# Altium footprint library Infineon Transistor & Diode.PcbLib: 47 footprints (part 2 of 3)
Each footprint in its own frame and in the unit in brackets; x right, y up, seen from the top. Pads: shape width x height; smd on the part's side, far side on the other; paste and mask are expansions set on the pad; w line width, h text height; cw(c..) or ccw(c..) is an arc to the next point about the centre after c.
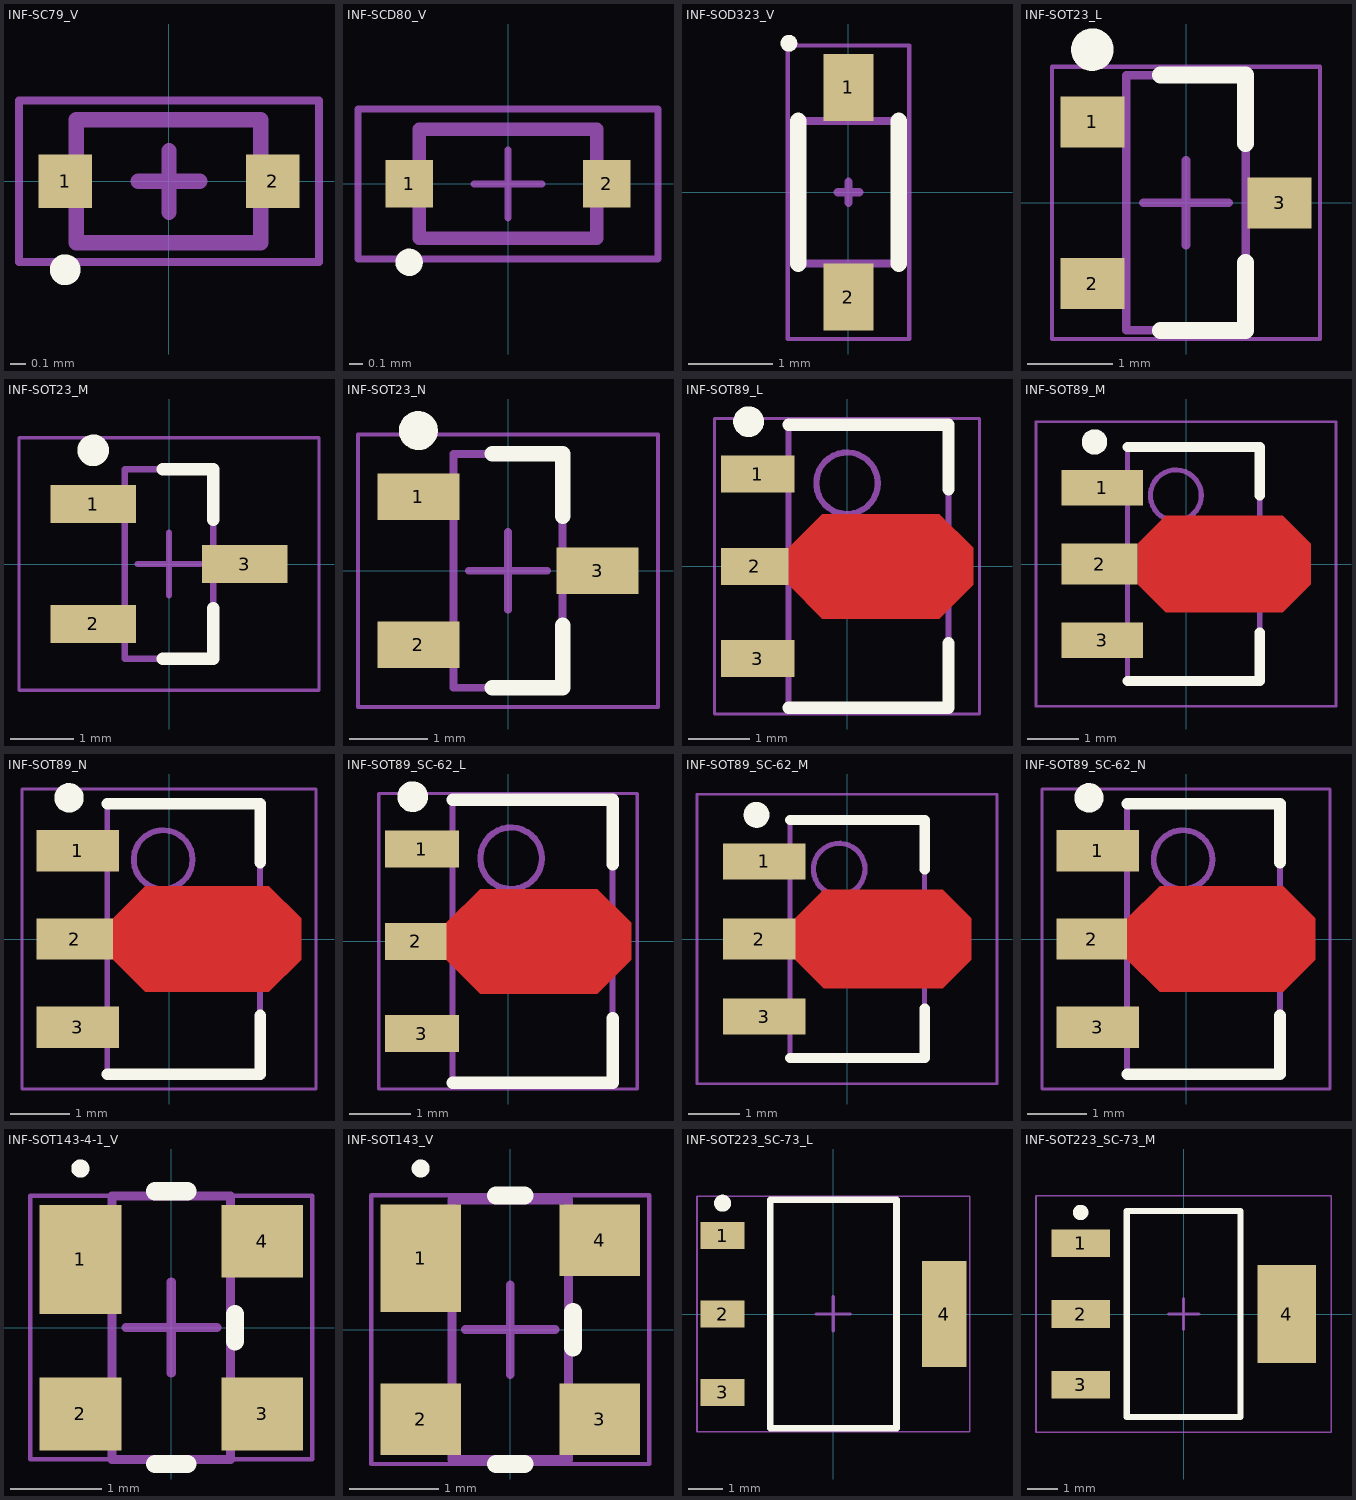
[diagram p1: the footprints below, top view; thin cyan lines are the x and y axes]

## INF-SC79_V [mm] "SC79, 2-Leads, Body 1.2x0.8 mm"
height 0.59
pads (2):
  rect 0.35x0.35 smd: 1(-0.672,0) 2(0.678,0)
Top Overlay:
  circle w0.1: c-0.672,-0.575 r0.05
Mechanical 13:
  lines w0.1: -0.6,-0.4 0.6,-0.4 0.6,0.4 -0.6,0.4 -0.6,-0.4
Mechanical 15:
  lines w0.05: -0.972,-0.254 -0.972,0.337 -0.972,0.525 -0.762,0.525 0.381,0.525 0.978,0.525 0.978,0.337 0.978,-0.254 ; -0.972,0.254 -0.972,-0.337 -0.972,-0.525 -0.762,-0.525 0.381,-0.525 0.978,-0.525 0.978,-0.337 0.978,0.254
  lines w0.1: -0.197,0 0.203,0 ; 0.003,-0.2 0.003,0.2
3D body: height 0.59, standoff 0, extent -0.597,-0.4 0.603,0.4

## INF-SCD80_V [mm] "SCD80, 2-Leads, Body 0.8x1.3 mm"
height 0.8
pads (2):
  rect 0.35x0.35 smd: 1(-0.725,0) 2(0.725,0)
Top Overlay:
  circle w0.1: c-0.725,-0.575 r0.05
Mechanical 13:
  lines w0.1: -0.65,-0.4 -0.65,0.4 0.65,0.4 0.65,-0.4 -0.65,-0.4
Mechanical 15:
  lines w0.05: -0.25,0 0.25,0 ; 0,-0.25 0,0.25 ; -1.1,-0.55 -1.1,0.55 1.1,0.55 1.1,-0.55 -1.1,-0.55
3D body: height 0.8, standoff 0, extent -0.65,-0.4 0.65,0.4

## INF-SOD323_V [mm] "SOD, 2-Leads, Body 1.7x1.25 mm"
height 1.1
pads (2):
  rect 0.6x0.8 smd: 1(0,1.25) 2(0,-1.25)
Top Overlay:
  circle w0.1: c-0.71,1.778 r0.05
  lines w0.2: -0.6,-0.85 -0.6,0.85 ; 0.6,-0.85 0.6,0.85
Mechanical 13:
  lines w0.1: -0.625,-0.85 0.625,-0.85 0.625,0.85 -0.625,0.85 -0.625,-0.85
Mechanical 15:
  lines w0.05: -0.725,-1.75 0.725,-1.75 0.725,1.75 -0.725,1.75 -0.725,-1.75
  lines w0.1: -0.127,0 0.127,0 ; 0,-0.127 0,0.127
3D body: height 1.1, standoff 0, extent -0.625,-0.85 0.625,0.85

## INF-SOT23_L [mm] "SOT23, 3-Leads, Body 2.9x1.3 mm, Pitch 0.95 mm, IPC High Density"
height 1.1
pads (3):
  rect 0.75x0.6 smd: 1(-1.1,0.95) 2(-1.1,-0.95) 3(1.1,0)
Top Overlay:
  circle w0.25: c-1.1,1.8 r0.125
  lines w0.2: -0.3,-1.5 0.7,-1.5 0.7,-0.7 ; -0.3,1.5 0.7,1.5 0.7,0.7
Mechanical 13:
  lines w0.1: -0.7,-1.5 -0.7,1.5 0.7,1.5 0.7,-1.5 -0.7,-1.5
Mechanical 15:
  lines w0.05: -1.575,-1.6 -1.575,1.6 1.575,1.6 1.575,-1.6 -1.575,-1.6
  lines w0.1: -0.5,0 0.5,0 ; 0,-0.5 0,0.5
3D body: height 1.1, standoff 0.1, extent -0.7,-1.5 0.7,1.5

## INF-SOT23_M [mm] "SOT23, 3-Leads, Body 2.9x1.3 mm, Pitch 0.95 mm, IPC Low Density"
height 1.1
pads (3):
  rect 1.35x0.6 smd: 1(-1.2,0.95) 2(-1.2,-0.95) 3(1.2,0)
Top Overlay:
  circle w0.25: c-1.2,1.8 r0.125
  lines w0.2: -0.1,-1.5 0.7,-1.5 0.7,-0.7 ; -0.1,1.5 0.7,1.5 0.7,0.7
Mechanical 13:
  lines w0.1: -0.7,-1.5 -0.7,1.5 0.7,1.5 0.7,-1.5 -0.7,-1.5
Mechanical 15:
  lines w0.05: -2.375,-2 -2.375,2 2.375,2 2.375,-2 -2.375,-2
  lines w0.1: -0.5,0 0.5,0 ; 0,-0.5 0,0.5
3D body: height 1.1, standoff 0.1, extent -0.7,-1.5 0.7,1.5

## INF-SOT23_N [mm] "SOT23, 3-Leads, Body 2.9x1.3 mm, Pitch 0.95 mm, IPC Medium Density"
height 1.1
pads (3):
  rect 1.05x0.6 smd: 1(-1.15,0.95) 2(-1.15,-0.95) 3(1.15,0)
Top Overlay:
  circle w0.25: c-1.15,1.8 r0.125
  lines w0.2: -0.2,-1.5 0.7,-1.5 0.7,-0.7 ; -0.2,1.5 0.7,1.5 0.7,0.7
Mechanical 13:
  lines w0.1: -0.7,-1.5 0.7,-1.5 0.7,1.5 -0.7,1.5 -0.7,-1.5
Mechanical 15:
  lines w0.05: -1.925,-1.75 1.925,-1.75 1.925,1.75 -1.925,1.75 -1.925,-1.75
  lines w0.1: -0.5,0 0.5,0 ; 0,-0.5 0,0.5
3D body: height 1.1, standoff 0.1, extent -0.7,-1.5 0.7,1.5

## INF-SOT89_L [mm] "SOT89, 3-Leads, Body 4.5x2.5 mm, Pitch 1.5 mm, IPC High Density"
height 1.6
pads (3):
  rect 1.2x0.6 smd: 1(-1.45,1.5) 3(-1.45,-1.5)
  rect 1.1x0.6 smd: 2(-1.5,0)
Top Layer:
  region: -0.95,0.3 -0.4,0.85 1.5,0.85 2.05,0.3 2.05,-0.3 1.5,-0.85 -0.4,-0.85 -0.95,-0.3
Top Overlay:
  circle w0.25: c-1.6,2.35 r0.125
  lines w0.2: -0.95,-2.3 1.65,-2.3 1.65,-1.25 ; -0.95,2.3 1.65,2.3 1.65,1.25
Mechanical 13:
  circle w0.1: c0,1.35 r0.5
  lines w0.1: -0.95,-2.3 -0.95,2.3 1.65,2.3 1.65,-2.3 -0.95,-2.3
Mechanical 15:
  lines w0.05: -2.15,-2.4 -2.15,2.4 2.15,2.4 2.15,-2.4 -2.15,-2.4
  lines w0.1: -0.15,0 0.85,0 ; 0.35,-0.5 0.35,0.5
3D body: height 1.6, standoff 0, extent -0.95,-2.3 1.65,2.3

## INF-SOT89_M [mm] "SOT89, 3-Leads, Body 4.5x2.5 mm, Pitch 1.5 mm, IPC Low Density"
height 1.6
pads (3):
  rect 1.6x0.7 smd: 1(-1.65,1.5) 3(-1.65,-1.5)
  rect 1.5x0.8 smd: 2(-1.7,0)
Top Layer:
  region: -0.95,0.4 -0.4,0.95 1.9,0.95 2.45,0.4 2.45,-0.4 1.9,-0.95 -0.4,-0.95 -0.95,-0.4
Top Overlay:
  circle w0.25: c-1.8,2.4 r0.125
  lines w0.2: -1.15,-2.3 1.45,-2.3 1.45,-1.35 ; -1.15,2.3 1.45,2.3 1.45,1.35
Mechanical 13:
  circle w0.1: c-0.2,1.35 r0.5
  lines w0.1: -1.15,-2.3 -1.15,2.3 1.45,2.3 1.45,-2.3 -1.15,-2.3
Mechanical 15:
  lines w0.05: -2.95,-2.8 -2.95,2.8 2.95,2.8 2.95,-2.8 -2.95,-2.8
  lines w0.1: -0.35,0 0.65,0 ; 0.15,-0.5 0.15,0.5
3D body: height 1.6, standoff 0, extent -1.15,-2.3 1.45,2.3

## INF-SOT89_N [mm] "SOT89, 3-Leads, Body 4.5x2.5 mm, Pitch 1.5 mm, IPC Medium Density"
height 1.6
pads (3):
  rect 1.4x0.7 smd: 1(-1.55,1.5) 3(-1.55,-1.5)
  rect 1.3x0.7 smd: 2(-1.6,0)
Top Layer:
  region: -0.95,0.35 -0.4,0.9 1.7,0.9 2.25,0.35 2.25,-0.35 1.7,-0.9 -0.4,-0.9 -0.95,-0.35
Top Overlay:
  circle w0.25: c-1.7,2.4 r0.125
  lines w0.2: -1.05,-2.3 1.55,-2.3 1.55,-1.3 ; -1.05,2.3 1.55,2.3 1.55,1.3
Mechanical 13:
  circle w0.1: c-0.1,1.35 r0.5
  lines w0.1: -1.05,-2.3 -1.05,2.3 1.55,2.3 1.55,-2.3 -1.05,-2.3
Mechanical 15:
  lines w0.05: -2.5,-2.55 -2.5,2.55 2.5,2.55 2.5,-2.55 -2.5,-2.55
  lines w0.1: -0.25,0 0.75,0 ; 0.25,-0.5 0.25,0.5
3D body: height 1.6, standoff 0, extent -1.05,-2.3 1.55,2.3

## INF-SOT89_SC-62_L [mm] "SOT89, 3-Leads, Body 4.5x2.5mm, Pitch 1.5mm, IPC High Density"
height 1.6
pads (3):
  rect 1.2x0.6 smd: 1(-1.4,1.5) 3(-1.4,-1.5)
  rect 1x0.6 smd: 2(-1.5,0)
Top Layer:
  region: -1,0.3 -0.45,0.85 1.45,0.85 2,0.3 2,-0.3 1.45,-0.85 -0.45,-0.85 -1,-0.3
Top Overlay:
  circle w0.25: c-1.55,2.35 r0.125
  lines w0.2: -0.9,-2.3 1.7,-2.3 1.7,-1.25 ; -0.9,2.3 1.7,2.3 1.7,1.25
Mechanical 13:
  circle w0.1: c0.05,1.35 r0.5
  lines w0.1: -0.9,-2.3 1.7,-2.3 1.7,2.3 -0.9,2.3 -0.9,-2.3
Mechanical 15:
  lines w0.05: -2.1,-2.4 2.1,-2.4 2.1,2.4 -2.1,2.4 -2.1,-2.4
  lines w0.1: -0.5,0 0.5,0 ; 0,-0.5 0,0.5
3D body: height 1.6, standoff 0, extent -0.9,-2.3 1.7,2.3

## INF-SOT89_SC-62_M [mm] "SOT89, 3-Leads, Body 4.5x2.5mm, Pitch 1.5mm, IPC Low Density"
height 1.6
pads (3):
  rect 1.6x0.7 smd: 1(-1.6,1.5) 3(-1.6,-1.5)
  rect 1.4x0.8 smd: 2(-1.7,0)
Top Layer:
  region: -1,0.4 -0.45,0.95 1.85,0.95 2.4,0.4 2.4,-0.4 1.85,-0.95 -0.45,-0.95 -1,-0.4
Top Overlay:
  circle w0.25: c-1.75,2.4 r0.125
  lines w0.2: -1.1,-2.3 1.5,-2.3 1.5,-1.35 ; -1.1,2.3 1.5,2.3 1.5,1.35
Mechanical 13:
  circle w0.1: c-0.15,1.35 r0.5
  lines w0.1: -1.1,-2.3 1.5,-2.3 1.5,2.3 -1.1,2.3 -1.1,-2.3
Mechanical 15:
  lines w0.05: -2.9,-2.8 2.9,-2.8 2.9,2.8 -2.9,2.8 -2.9,-2.8
  lines w0.1: -0.5,0 0.5,0 ; 0,-0.5 0,0.5
3D body: height 1.6, standoff 0, extent -1.1,-2.3 1.5,2.3

## INF-SOT89_SC-62_N [mm] "SOT89, 3-Leads, Body 4.5x2.5mm, Pitch 1.5mm, IPC Medium Density"
height 1.6
pads (3):
  rect 1.4x0.7 smd: 1(-1.5,1.5) 3(-1.5,-1.5)
  rect 1.2x0.7 smd: 2(-1.6,0)
Top Layer:
  region: -1,0.35 -0.45,0.9 1.65,0.9 2.2,0.35 2.2,-0.35 1.65,-0.9 -0.45,-0.9 -1,-0.35
Top Overlay:
  circle w0.25: c-1.65,2.4 r0.125
  lines w0.2: -1,-2.3 1.6,-2.3 1.6,-1.3 ; -1,2.3 1.6,2.3 1.6,1.3
Mechanical 13:
  circle w0.1: c-0.05,1.35 r0.5
  lines w0.1: -1,-2.3 1.6,-2.3 1.6,2.3 -1,2.3 -1,-2.3
Mechanical 15:
  lines w0.05: -2.45,-2.55 2.45,-2.55 2.45,2.55 -2.45,2.55 -2.45,-2.55
  lines w0.1: -0.5,0 0.5,0 ; 0,-0.5 0,0.5
3D body: height 1.6, standoff 0, extent -1,-2.3 1.6,2.3

## INF-SOT143-4-1_V [mm] "SOT143, 4-Leads, Body 2.9x1.3 mm"
height 1.1
pads (4):
  rect 0.9x1.2 smd: 1(-1,0.75)
  rect 0.9x0.8 smd: 2(-1,-0.95) 3(1,-0.95) 4(1,0.95)
Top Overlay:
  circle w0.1: c-1,1.75 r0.05
  lines w0.2: -0.179,-1.5 0.179,-1.5 ; -0.179,1.5 0.179,1.5 ; 0.7,-0.15 0.7,0.15
Mechanical 13:
  lines w0.1: -0.65,-1.45 0.65,-1.45 0.65,1.45 -0.65,1.45 -0.65,-1.45
Mechanical 15:
  lines w0.05: -1.55,-1.45 1.55,-1.45 1.55,1.45 -1.55,1.45 -1.55,-1.45
  lines w0.1: -0.5,0 0.5,0 ; 0,-0.5 0,0.5
3D body: height 1.1, standoff 0.1, extent -0.65,-1.45 0.65,1.45

## INF-SOT143_V [mm] "SOT143, 4-Leads, Body 2.9x1.3 mm"
height 1.1
pads (4):
  rect 0.9x1.2 smd: 1(-1,0.8)
  rect 0.9x0.8 smd: 2(-1,-1) 3(1,-1) 4(1,1)
Top Overlay:
  circle w0.1: c-1,1.8 r0.05
  lines w0.2: -0.161,-1.5 0.161,-1.5 ; -0.161,1.5 0.161,1.5 ; 0.7,-0.2 0.7,0.2
Mechanical 13:
  lines w0.1: -0.65,-1.45 0.65,-1.45 0.65,1.45 -0.65,1.45 -0.65,-1.45
Mechanical 15:
  lines w0.05: -1.55,-1.5 1.55,-1.5 1.55,1.5 -1.55,1.5 -1.55,-1.5
  lines w0.1: -0.5,0 0.5,0 ; 0,-0.5 0,0.5
3D body: height 1.1, standoff 0.1, extent -0.65,-1.45 0.65,1.45

## INF-SOT223_SC-73_L [mm] "SOT223, 4-Leads, Body 6.5x3.5mm, Pitch 2.3mm, IPC High Density"
height 1.8
pads (4):
  rect 1.3x0.8 smd: 1(-3.25,2.3) 2(-3.25,0) 3(-3.25,-2.3)
  rect 1.3x3.1 smd: 4(3.25,0)
Top Overlay:
  circle w0.25: c-3.25,3.25 r0.125
  lines w0.2: -1.85,-3.35 -1.85,3.35 1.85,3.35 1.85,-3.35 -1.85,-3.35
Mechanical 13:
  lines w0.1: -1.85,-3.35 1.85,-3.35 1.85,3.35 -1.85,3.35 -1.85,-3.35
Mechanical 15:
  lines w0.05: -4,-3.45 4,-3.45 4,3.45 -4,3.45 -4,-3.45
  lines w0.1: -0.5,0 0.5,0 ; 0,-0.5 0,0.5
3D body: height 1.8, standoff 0.1, extent -1.85,-3.35 1.85,3.35

## INF-SOT223_SC-73_M [mm] "SOT223, 4-Leads, Body 6.5x3.5mm, Pitch 2.3mm, IPC Low Density"
height 1.8
pads (4):
  rect 1.9x0.9 smd: 1(-3.35,2.3) 2(-3.35,0) 3(-3.35,-2.3)
  rect 1.9x3.2 smd: 4(3.35,0)
Top Overlay:
  circle w0.25: c-3.35,3.3 r0.125
  lines w0.2: -1.85,-3.35 -1.85,3.35 1.85,3.35 1.85,-3.35 -1.85,-3.35
Mechanical 13:
  lines w0.1: -1.85,-3.35 1.85,-3.35 1.85,3.35 -1.85,3.35 -1.85,-3.35
Mechanical 15:
  lines w0.05: -4.8,-3.85 4.8,-3.85 4.8,3.85 -4.8,3.85 -4.8,-3.85
  lines w0.1: -0.5,0 0.5,0 ; 0,-0.5 0,0.5
3D body: height 1.8, standoff 0.1, extent -1.85,-3.35 1.85,3.35